# Altium schematic symbol library Power-DCDC-XL1509.SchLib: 1 symbol
Pins are listed as number, name and electrical type; pins without a type are passive.

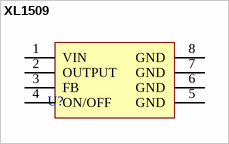
[diagram p0: symbol XL1509]

## XL1509
designator U?
pins: 1 VIN, 2 OUTPUT, 3 FB, 4 ON/OFF, 5 GND, 6 GND, 7 GND, 8 GND